# EAGLE library part TE-5-2337992-8 (library TE-5-2337992-8-MAGJACK)
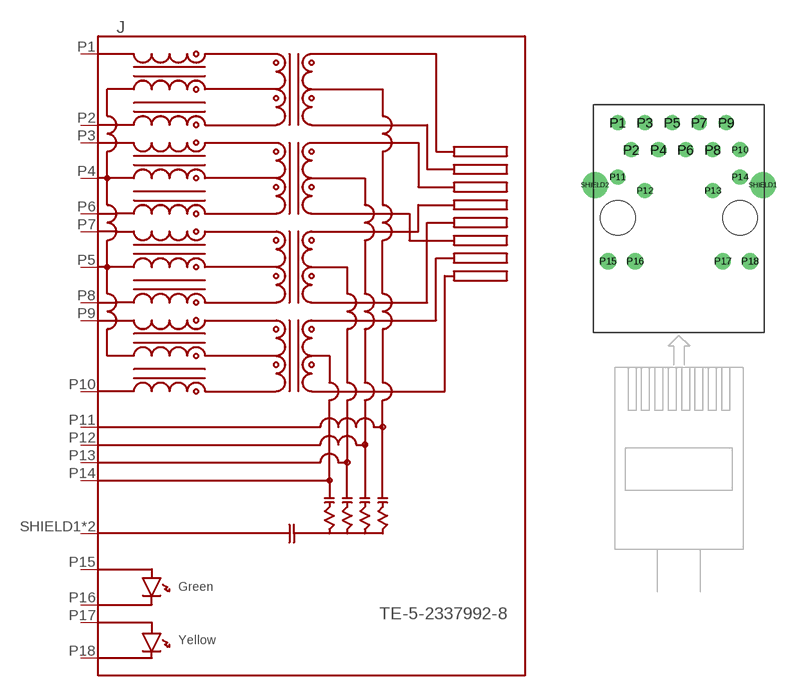
[diagram p0: symbol with the pads of TE-5-2337992-8; footprint TE-5-2337992-8]

Designator prefix J

## TE-5-2337992-8  [TE-5-2337992-8]
P1  P1
P2  P2
P3  P3
P4  P4
P5  P5
P6  P6
P7  P7
P8  P8
P9  P9
P10  P10
P11  P11
P12  P12
P13  P13
P14  P14
P15  P15
P16  P16
P17  P17
P18  P18
SHIELD1  SHIELD
SHIELD2  SHIELD

## Footprint TE-5-2337992-8 (pad centres in mm)
drill 0.9: P1 -5.715,8.9; P2 -4.445,6.36; P3 -3.175,8.9; P4 -1.905,6.36; P5 -0.635,8.9; P6 0.635,6.36; P7 1.905,8.9; P8 3.175,6.36; P9 4.445,8.9; P10 5.715,6.36; P11 -5.715,3.82; P12 -3.175,2.55; P13 3.175,2.55; P14 5.715,3.82
drill 1.02: P15 -6.64,-4.06; P16 -4.1,-4.06; P17 4.1,-4.06; P18 6.64,-4.06
drill 1.6: SHIELD1 7.85,3.05; SHIELD2 -7.85,3.05
hole 3.25 at -5.715,0
hole 3.25 at 5.715,0